# EAGLE library part HD-E101 (library Parts)
LED DISPLAY 1-character 7 segment, decimal point right
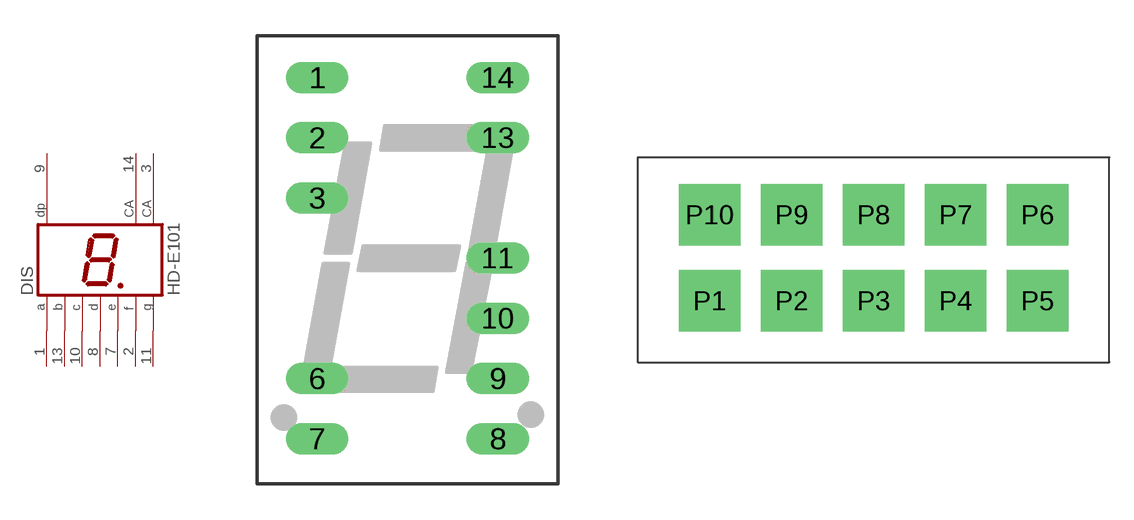
[diagram p0: symbol with the pads of HDSP-I; footprints HDSP-I, 4"]

Designator prefix DIS

## HD-E101 (OC_FARNELL: unknown; OC_NEWARK: unknown)  [HDSP-I]
1  A  pas
2  F  pas
3  CA  pas
7  E  pas
8  D  pas
9  DP  pas
10  C  pas
11  G  pas
13  B  pas
14  CA  pas

## HD-E101LARGE  [4"]
P1  E  pas
P2  D  pas
P3  CA  pas
P4  C  pas
P5  DP  pas
P6  B  pas
P7  A  pas
P8  CA  pas
P9  F  pas
P10  G  pas

## HD-E101BIG  [4INTESTER]
1  E  pas
2  D  pas
3  CA  pas
4  C  pas
5  DP  pas
6  B  pas
7  A  pas
8  CA  pas
9  F  pas
10  G  pas

## HD-E101BACKWARDS  [7SEGMENT_BACKWARDS]
Pads as for 4INTESTER

## Footprint HDSP-I (pad centres in mm)
LED DISPLAY 12-mm 1 character 7 segment, 2 decimal points
drill 0.813 long: 1 -3.81,7.62; 2 -3.81,5.08; 3 -3.81,2.54; 6 -3.81,-5.08; 7 -3.81,-7.62; 8 3.81,-7.62; 9 3.81,-5.08; 10 3.81,-2.54; 11 3.81,0; 13 3.81,5.08; 14 3.81,7.62

## Footprint 4" (pad centres in mm)
drill 0.8 pad 3.81 square: P1 0,0; P2 5.08,0; P3 10.16,0; P4 15.24,0; P5 20.32,0; P6 20.32,5.334; P7 15.24,5.334; P8 10.16,5.334; P9 5.08,5.334; P10 0,5.334

## Footprint 4INTESTER (pad centres in mm)
drill 1.1 pad 1.778: 1 0,0; 2 5.08,0; 3 10.16,0; 4 15.24,0; 5 20.32,0; 6 20.32,76.2; 7 15.24,76.2; 8 10.16,76.2; 9 5.08,76.2; 10 0,76.2; GND 2.54,76.2; GND2 7.62,76.2; GND3 12.7,76.2; GND4 17.78,76.2; GND5 2.54,0; GND6 7.62,0; GND7 12.7,0; GND8 17.78,0

## Footprint 7SEGMENT_BACKWARDS (pad centres in mm)
drill 1.1 pad 1.778: 1 20.32,0; 2 15.24,0; 3 10.16,0; 4 5.08,0; 5 0,0; 6 0,78.74; 7 5.08,78.74; 8 10.16,78.74; 9 15.24,78.74; 10 20.32,78.74; GND 17.78,78.74; GND2 12.7,78.74; GND3 7.62,78.74; GND4 2.54,78.74; GND5 17.78,0; GND6 12.7,0; GND7 7.62,0; GND8 2.54,0